# EAGLE library part PINHD-2X3 (library JLB6_Connec)
Pin header male 2x3
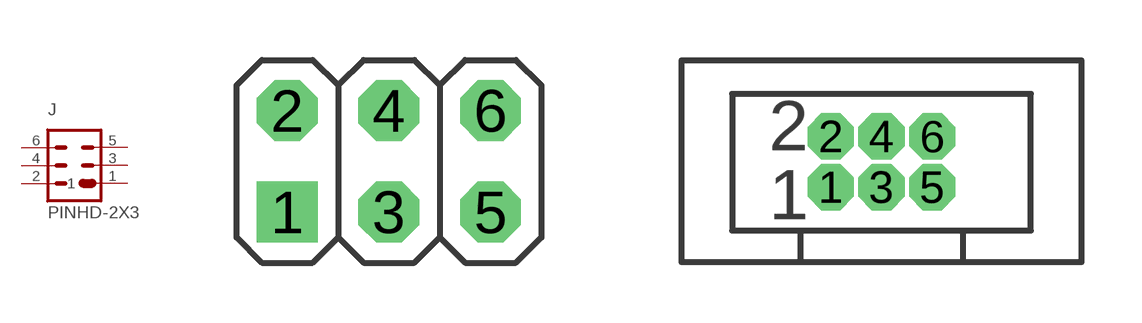
[diagram p30: symbol with the pads of 2X03; footprints 2X03, ML6-127]

Designator prefix J

## PINHD-2X3254  [2X03]
1  1  pas
2  2  pas
3  3  pas
4  4  pas
5  5  pas
6  6  pas

## PINHD-2X3-127  [ML6-127]
Pads as for 2X03

## PINHD-2X3-254  [ML6]
Pads as for 2X03

## Footprint 2X03 (pad centres in mm)
drill 1.016 square: 1 -2.54,-1.27
drill 1.016 octagon: 2 -2.54,1.27; 3 0,-1.27; 4 0,1.27; 5 2.54,-1.27; 6 2.54,1.27

## Footprint ML6-127 (pad centres in mm)
embase male avec corps au pas de 1,27mm percage 0,6mm Pad allongée
drill 0.65 pad 1.016 octagon: 1 -1.27,-0.635; 2 -1.27,0.635; 3 0,-0.635; 4 0,0.635; 5 1.27,-0.635; 6 1.27,0.635

## Footprint ML6 (pad centres in mm)
HARTING
drill 0.914 octagon: 1 -2.54,-1.27; 2 -2.54,1.27; 3 0,-1.27; 4 0,1.27; 5 2.54,-1.27; 6 2.54,1.27